# Altium schematic symbol library CSTCE20M0V53-R0.SchLib: 1 symbol
Pins are listed as number, name and electrical type; pins without a type are passive.

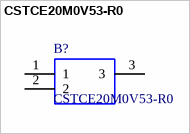
[diagram p0: symbol CSTCE20M0V53-R0]

## CSTCE20M0V53-R0
designator B?
SMT ceramic resonator 20.0MHz CSTCE20M0V53-R0, Ceramic Resonator, 20MHz Fundamental 15pF, 3-Pin Cap Chip, 3.2 x 1.3 x 0.7mm; Manufacturer_Name: Murata Electronics; Manufacturer_Part_Number: CSTCE20M0V53-R0; RS Part Number: 7214811P; RS Price/Stock: http://uk.rs-online.com/web/p/products/7214811P; Arrow Part Number: CSTCE20M0V53-R0; Arrow Price/Stock: https://www.arrow.com/en/products/cstce20m0v53-r0/murata-manufacturing; Datasheet Link: http://www.farnell.com/datasheets/45562.pdf
footprint CSTCE-V_1
pins: 1, 2, 3